# Altium footprint library 6-SON.PcbLib: 1 footprints
Each footprint in its own frame and in the unit in brackets; x right, y up, seen from the top. Pads: shape width x height; smd on the part's side, far side on the other; paste and mask are expansions set on the pad; w line width, h text height; cw(c..) or ccw(c..) is an arc to the next point about the centre after c.
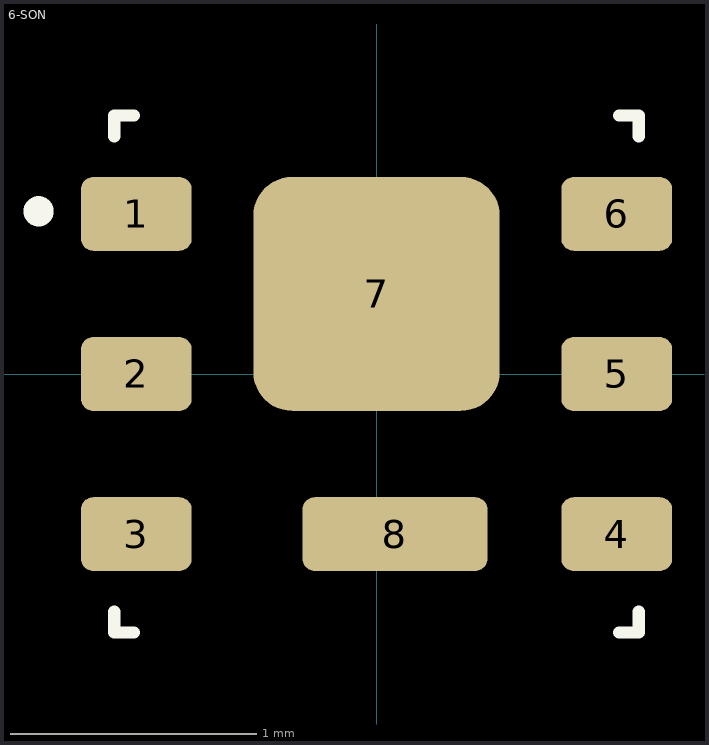
[diagram p0: the footprint, top view; thin cyan lines are the x and y axes]

## 6-SON [mm] "6-SON"
pads (8):
  rrect33% 0.45x0.3 smd mask+0.05: 1(-0.975,0.65) 2(-0.975,0) 3(-0.975,-0.65) 4(0.975,-0.65) 5(0.975,0) 6(0.975,0.65)
  rrect33% 1x0.95 smd paste-5 mask+0.05: 7(0,0.325)
  rrect33% 0.75x0.3 smd paste-5 mask+0.05: 8(0.075,-0.65)
Top Overlay:
  circle w0.1: c-1.372,0.66 r0.011
  lines w0.05: -1.065,-0.964 -1.065,-1.049 -0.985,-1.049 ; -1.065,0.964 -1.065,1.049 -0.985,1.049 ; 0.985,-1.049 1.065,-1.049 1.065,-0.964 ; 0.985,1.049 1.065,1.049 1.065,0.964
Top Paste:
  region: -0.308,0.755 -0.336,0.755 -0.388,0.733 -0.428,0.693 -0.45,0.641 -0.45,0.613 -0.45,0.037 -0.45,0.008 -0.428,-0.044 -0.388,-0.084 -0.336,-0.105 -0.308,-0.105 0.308,-0.105 0.336,-0.105 0.388,-0.084 0.428,-0.044 0.45,0.008 0.45,0.037 0.45,0.613 0.45,0.641 0.428,0.693 0.388,0.733 0.336,0.755 0.308,0.755
  region: -0.275,-0.553 -0.275,-0.747 -0.275,-0.757 -0.268,-0.774 -0.254,-0.788 -0.237,-0.795 -0.227,-0.795 0.377,-0.795 0.387,-0.795 0.404,-0.788 0.418,-0.774 0.425,-0.757 0.425,-0.747 0.425,-0.552 0.425,-0.543 0.418,-0.526 0.404,-0.512 0.387,-0.505 0.378,-0.505 -0.227,-0.505 -0.237,-0.505 -0.254,-0.512 -0.268,-0.526 -0.275,-0.543
3D body "CSD16301Q2.STEP": height 0.8, standoff 0, extent -1.003,-1.003 0.997,0.997